# EAGLE library part TA7291P (library 0Robin)
TA7291P DC Motor Controller
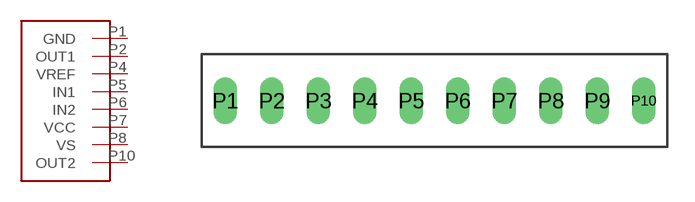
[diagram p0: symbol with the pads of TA7291P; footprint TA7291P]

Designator prefix -

## TA7291P  [TA7291P]
P1  GND
P2  OUT1  out
P4  VREF  in
P5  IN1  in
P6  IN2  in
P7  VCC  pwr
P8  VS  pwr
P10  OUT2  out

## Footprint TA7291P (pad centres in mm)
drill 0.254 pad 1.27 long: P1 -11.43,0; P2 -8.89,0; P3 -6.35,0; P4 -3.81,0; P5 -1.27,0; P6 1.27,0; P7 3.81,0; P8 6.35,0; P9 8.89,0; P10 11.43,0